# Altium integrated library RF-Filters.IntLib: 2 symbols
Pins are listed as number, name and electrical type; pins without a type are passive.

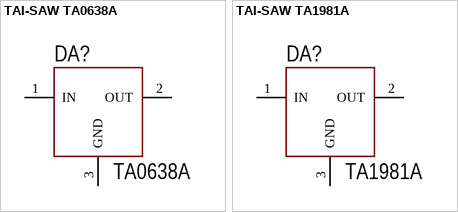
[diagram p0: symbols TAI-SAW TA0638A to TAI-SAW TA1981A]

## TAI-SAW TA0638A
designator DA?, comment TA0638A
SAW Filter 1590 MHz
footprint SQ 3x3 mm
pins: 1 IN, 2 OUT, 3 GND

## TAI-SAW TA1981A
designator DA?, comment TA1981A
SAW Filter 1950 MHz SMD 3.0×3.0 mm (BW=100MHz)
footprint SQ 3x3 mm
pins: 1 IN, 2 OUT, 3 GND